# Altium schematic symbol library circuithub-4eb80f3c3dca29cdec0eb729135cd8f71a9266c2.SchLib: 2 symbols
Pins are listed as number, name and electrical type; pins without a type are passive.

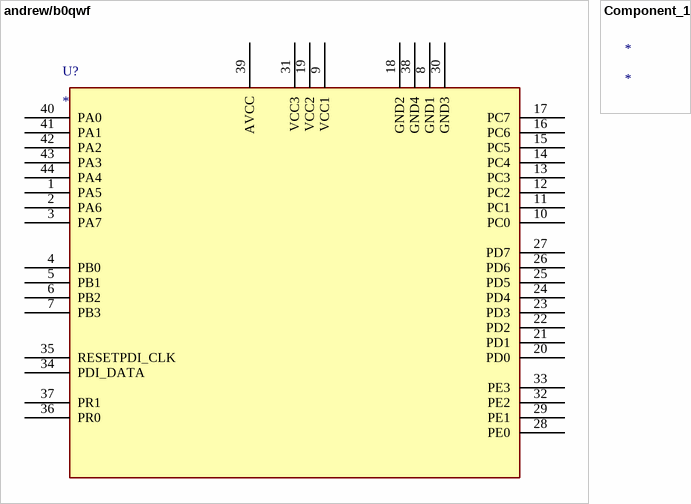
[diagram p0: symbols andrew/b0qwf to Component_1]

## andrew/b0qwf
designator U?
Imported
pins: 1 PA5, 2 PA6, 3 PA7, 4 PB0, 5 PB1, 6 PB2, 7 PB3, 8 GND1, 9 VCC1, 10 PC0, 11 PC1, 12 PC2, 13 PC3, 14 PC4, 15 PC5, 16 PC6, 17 PC7, 18 GND2, 19 VCC2, 20 PD0, 21 PD1, 22 PD2, 23 PD3, 24 PD4, 25 PD5, 26 PD6, 27 PD7, 28 PE0, 29 PE1, 30 GND3, 31 VCC3, 32 PE2, 33 PE3, 34 PDI_DATA, 35 RESETPDI_CLK, 36 PR0, 37 PR1, 38 GND4, 39 AVCC, 40 PA0, 41 PA1, 42 PA2, 43 PA3, 44 PA4

## Component_1
designator *